# Altium schematic symbol library BAT.Schlib: 1 symbol
Pins are listed as number, name and electrical type; pins without a type are passive.

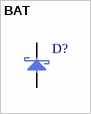
[diagram p0: symbol BAT]

## BAT
designator D?  (value not drawn)
pins: 1 C, 2 A
1 alternate drawing of the same symbol